# EAGLE library part XC6SLX16 (library IC_FPGA)
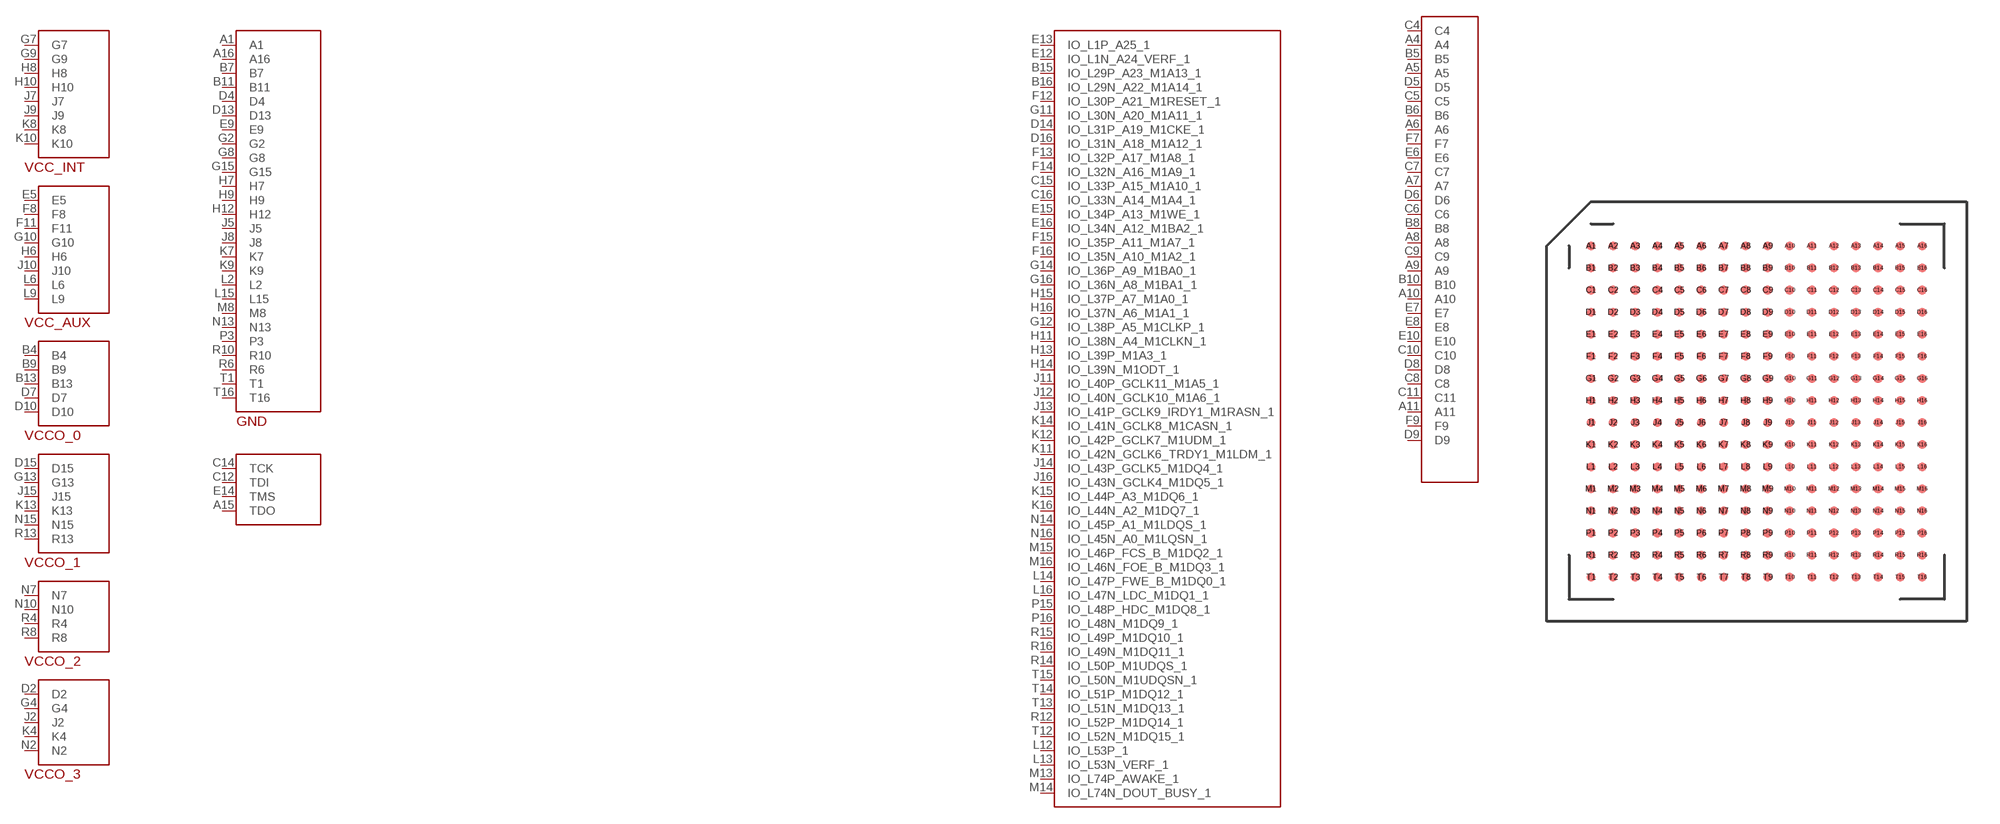
[diagram p0: symbol with the pads of FTG256; footprint FTG256]

Designator prefix -

## XC6SLX16  [FTG256]
A1  A1
A4  A4
A5  A5
A6  A6
A7  A7
A8  A8
A9  A9
A10  A10
A11  A11
A15  TDO
A16  A16
B4  B4
B5  B5
B6  B6
B7  B7
B8  B8
B9  B9
B10  B10
B11  B11
B13  B13
B15  IO_L29P_A23_M1A13_1
B16  IO_L29N_A22_M1A14_1
C4  C4
C5  C5
C6  C6
C7  C7
C8  C8
C9  C9
C10  C10
C11  C11
C12  TDI
C14  TCK
C15  IO_L33P_A15_M1A10_1
C16  IO_L33N_A14_M1A4_1
D2  D2
D4  D4
D5  D5
D6  D6
D7  D7
D8  D8
D9  D9
D10  D10
D13  D13
D14  IO_L31P_A19_M1CKE_1
D15  D15
D16  IO_L31N_A18_M1A12_1
E5  E5
E6  E6
E7  E7
E8  E8
E9  E9
E10  E10
E12  IO_L1N_A24_VERF_1
E13  IO_L1P_A25_1
E14  TMS
E15  IO_L34P_A13_M1WE_1
E16  IO_L34N_A12_M1BA2_1
F7  F7
F8  F8
F9  F9
F11  F11
F12  IO_L30P_A21_M1RESET_1
F13  IO_L32P_A17_M1A8_1
F14  IO_L32N_A16_M1A9_1
F15  IO_L35P_A11_M1A7_1
F16  IO_L35N_A10_M1A2_1
G2  G2
G4  G4
G7  G7
G8  G8
G9  G9
G10  G10
G11  IO_L30N_A20_M1A11_1
G12  IO_L38P_A5_M1CLKP_1
G13  G13
G14  IO_L36P_A9_M1BA0_1
G15  G15
G16  IO_L36N_A8_M1BA1_1
H6  H6
H7  H7
H8  H8
H9  H9
H10  H10
H11  IO_L38N_A4_M1CLKN_1
H12  H12
H13  IO_L39P_M1A3_1
H14  IO_L39N_M1ODT_1
H15  IO_L37P_A7_M1A0_1
H16  IO_L37N_A6_M1A1_1
J2  J2
J5  J5
J7  J7
J8  J8
J9  J9
J10  J10
J11  IO_L40P_GCLK11_M1A5_1
J12  IO_L40N_GCLK10_M1A6_1
J13  IO_L41P_GCLK9_IRDY1_M1RASN_1
J14  IO_L43P_GCLK5_M1DQ4_1
J15  J15
J16  IO_L43N_GCLK4_M1DQ5_1
K4  K4
K7  K7
K8  K8
K9  K9
K10  K10
K11  IO_L42N_GCLK6_TRDY1_M1LDM_1
K12  IO_L42P_GCLK7_M1UDM_1
K13  K13
K14  IO_L41N_GCLK8_M1CASN_1
K15  IO_L44P_A3_M1DQ6_1
K16  IO_L44N_A2_M1DQ7_1
L2  L2
L6  L6
L9  L9
L12  IO_L53P_1
L13  IO_L53N_VERF_1
L14  IO_L47P_FWE_B_M1DQ0_1
L15  L15
L16  IO_L47N_LDC_M1DQ1_1
M8  M8
M13  IO_L74P_AWAKE_1
M14  IO_L74N_DOUT_BUSY_1
M15  IO_L46P_FCS_B_M1DQ2_1
M16  IO_L46N_FOE_B_M1DQ3_1
N2  N2
N7  N7
N10  N10
N13  N13
N14  IO_L45P_A1_M1LDQS_1
N15  N15
N16  IO_L45N_A0_M1LQSN_1
P3  P3
P15  IO_L48P_HDC_M1DQ8_1
P16  IO_L48N_M1DQ9_1
R4  R4
R6  R6
R8  R8
R10  R10
R12  IO_L52P_M1DQ14_1
R13  R13
R14  IO_L50P_M1UDQS_1
R15  IO_L49P_M1DQ10_1
R16  IO_L49N_M1DQ11_1
T1  T1
T12  IO_L52N_M1DQ15_1
T13  IO_L51N_M1DQ13_1
T14  IO_L51P_M1DQ12_1
T15  IO_L50N_M1UDQSN_1
T16  T16

## Footprint FTG256 (pad centres in mm)
smd 0.4 x 0.4: A1 1,-1; A2 2,-1; A3 3,-1; A4 4,-1; A5 5,-1; A6 6,-1; A7 7,-1; A8 8,-1; A9 9,-1; A10 10,-1; A11 11,-1; A12 12,-1; A13 13,-1; A14 14,-1; A15 15,-1; A16 16,-1; B1 1,-2; B2 2,-2; B3 3,-2; B4 4,-2; B5 5,-2; B6 6,-2; B7 7,-2; B8 8,-2; B9 9,-2; B10 10,-2; B11 11,-2; B12 12,-2; B13 13,-2; B14 14,-2; B15 15,-2; B16 16,-2; C1 1,-3; C2 2,-3; C3 3,-3; C4 4,-3; C5 5,-3; C6 6,-3; C7 7,-3; C8 8,-3; C9 9,-3; C10 10,-3; C11 11,-3; C12 12,-3; C13 13,-3; C14 14,-3; C15 15,-3; C16 16,-3; D1 1,-4; D2 2,-4; D3 3,-4; D4 4,-4; D5 5,-4; D6 6,-4; D7 7,-4; D8 8,-4; D9 9,-4; D10 10,-4; D11 11,-4; D12 12,-4; D13 13,-4; D14 14,-4; D15 15,-4; D16 16,-4; E1 1,-5; E2 2,-5; E3 3,-5; E4 4,-5; E5 5,-5; E6 6,-5; E7 7,-5; E8 8,-5; E9 9,-5; E10 10,-5; E11 11,-5; E12 12,-5; E13 13,-5; E14 14,-5; E15 15,-5; E16 16,-5; F1 1,-6; F2 2,-6; F3 3,-6; F4 4,-6; F5 5,-6; F6 6,-6; F7 7,-6; F8 8,-6; F9 9,-6; F10 10,-6; F11 11,-6; F12 12,-6; F13 13,-6; F14 14,-6; F15 15,-6; F16 16,-6; G1 1,-7; G2 2,-7; G3 3,-7; G4 4,-7; G5 5,-7; G6 6,-7; G7 7,-7; G8 8,-7; G9 9,-7; G10 10,-7; G11 11,-7; G12 12,-7; G13 13,-7; G14 14,-7; G15 15,-7; G16 16,-7; H1 1,-8; H2 2,-8; H3 3,-8; H4 4,-8; H5 5,-8; H6 6,-8; H7 7,-8; H8 8,-8; H9 9,-8; H10 10,-8; H11 11,-8; H12 12,-8; H13 13,-8; H14 14,-8; H15 15,-8; H16 16,-8; J1 1,-9; J2 2,-9; J3 3,-9; J4 4,-9; J5 5,-9; J6 6,-9; J7 7,-9; J8 8,-9; J9 9,-9; J10 10,-9; J11 11,-9; J12 12,-9; J13 13,-9; J14 14,-9; J15 15,-9; J16 16,-9; K1 1,-10; K2 2,-10; K3 3,-10; K4 4,-10; K5 5,-10; K6 6,-10; K7 7,-10; K8 8,-10; K9 9,-10; K10 10,-10; K11 11,-10; K12 12,-10; K13 13,-10; K14 14,-10; K15 15,-10; K16 16,-10; L1 1,-11; L2 2,-11; L3 3,-11; L4 4,-11; L5 5,-11; L6 6,-11; L7 7,-11; L8 8,-11; L9 9,-11; L10 10,-11; L11 11,-11; L12 12,-11; L13 13,-11; L14 14,-11; L15 15,-11; L16 16,-11; M1 1,-12; M2 2,-12; M3 3,-12; M4 4,-12; M5 5,-12; M6 6,-12; M7 7,-12; M8 8,-12; M9 9,-12; M10 10,-12; M11 11,-12; M12 12,-12; M13 13,-12; M14 14,-12; M15 15,-12; M16 16,-12; N1 1,-13; N2 2,-13; N3 3,-13; N4 4,-13; N5 5,-13; N6 6,-13; N7 7,-13; N8 8,-13; N9 9,-13; N10 10,-13; N11 11,-13; N12 12,-13; N13 13,-13; N14 14,-13; N15 15,-13; N16 16,-13; P1 1,-14; P2 2,-14; P3 3,-14; P4 4,-14; P5 5,-14; P6 6,-14; P7 7,-14; P8 8,-14; P9 9,-14; P10 10,-14; P11 11,-14; P12 12,-14; P13 13,-14; P14 14,-14; P15 15,-14; P16 16,-14; R1 1,-15; R2 2,-15; R3 3,-15; R4 4,-15; R5 5,-15; R6 6,-15; R7 7,-15; R8 8,-15; R9 9,-15; R10 10,-15; R11 11,-15; R12 12,-15; R13 13,-15; R14 14,-15; R15 15,-15; R16 16,-15; T1 1,-16; T2 2,-16; T3 3,-16; T4 4,-16; T5 5,-16; T6 6,-16; T7 7,-16; T8 8,-16; T9 9,-16; T10 10,-16; T11 11,-16; T12 12,-16; T13 13,-16; T14 14,-16; T15 15,-16; T16 16,-16